# EAGLE library part SN74LS157N (library ICs)
MULTIPLEXERS
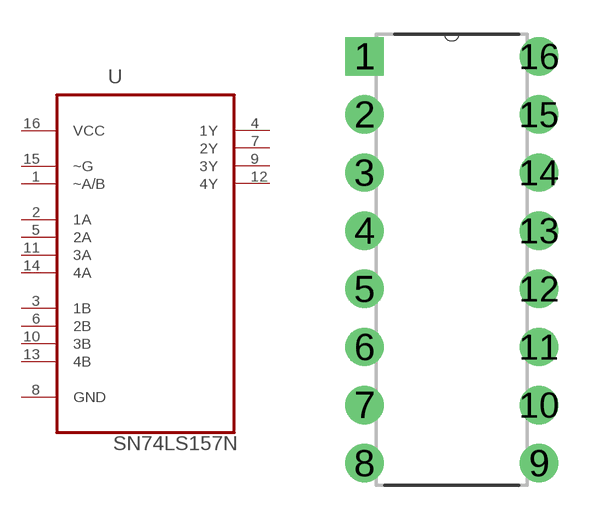
[diagram p18: symbol with the pads of DIP254P762X508-16; footprint DIP254P762X508-16]

Designator prefix U

## SN74LS157N (AVAILABILITY: Unavailable; DESCRIPTION: IC Quad 2-1 L Data/sel 16PI; MF: Texas Instruments; MP: SN74LS157N; PACKAGE: PDIP-16 Motorola; PRICE: None)  [DIP254P762X508-16]
1  ~A/B  in
2  1A  in
3  1B  in
4  1Y  out
5  2A  in
6  2B  in
7  2Y  out
8  GND  pas
9  3Y  out
10  3B  in
11  3A  in
12  4Y  out
13  4B  in
14  4A  in
15  ~G  in
16  VCC  pwr

## Footprint DIP254P762X508-16 (pad centres in mm)
drill 1.118 square: 1 -7.62,17.78
drill 1.118: 2 -7.62,15.24; 3 -7.62,12.7; 4 -7.62,10.16; 5 -7.62,7.62; 6 -7.62,5.08; 7 -7.62,2.54; 8 -7.62,0; 9 0,0; 10 0,2.54; 11 0,5.08; 12 0,7.62; 13 0,10.16; 14 0,12.7; 15 0,15.24; 16 0,17.78